# Altium schematic symbol library photocoupler35V.SCHLIB: 1 symbol
Pins are listed as number, name and electrical type; pins without a type are passive.

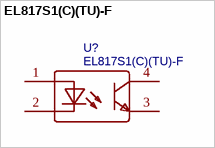
[diagram p0: symbol EL817S1(C)(TU)-F]

## EL817S1(C)(TU)-F
designator U?
BOM_Manufacturer: EVERLIGHT; BOM_Supplier: LCSC; BOM_Manufacturer Part: EL817S1(C)(TU)-F; BOM_Supplier Part: C106900; BOM_JLCPCB Part Class: Basic Part; spicePre: U; spiceSymbolName: EL817S1(C)(TU)-F
footprint OPTO-SMD-4_L4.6-W6.5-P2.54-LS10.3-TL
pins: 1 AN, 2 CAT, 3 EM, 4 COL